# EAGLE library part 610016243021 (library Wuerth_Elektronik_eiCan_Pin_&_Socked_Headers_v1.3)
WR-PHD 2.54mm SMT Dual Socket Header Bottom Entry, 16 Pins
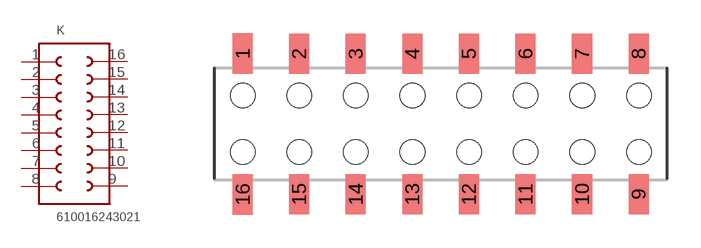
[diagram p222: symbol with the pads of 610016243021; footprint 610016243021]

Designator prefix K

## 610016243021  [610016243021]
1  1  pas
2  2  pas
3  3  pas
4  4  pas
5  5  pas
6  6  pas
7  7  pas
8  8  pas
9  9  pas
10  10  pas
11  11  pas
12  12  pas
13  13  pas
14  14  pas
15  15  pas
16  16  pas

## Footprint 610016243021 (pad centres in mm)
WR-PHD 2.54mm SMT Dual Socket Header Bottom Entry, 16 Pins
smd 0.9 x 1.8: 1 -8.89,3.15; 2 -6.36,3.14; 3 -3.82,3.14; 4 -1.28,3.14; 5 1.26,3.14; 6 3.8,3.14; 7 6.34,3.14; 8 8.88,3.14; 9 8.88,-3.16; 10 6.34,-3.16; 11 3.8,-3.16; 12 1.26,-3.16; 13 -1.28,-3.16; 14 -3.82,-3.16; 15 -6.36,-3.16; 16 -8.89,-3.17
hole 1.1 at -8.89,1.27
hole 1.1 at -6.35,1.27
hole 1.1 at -6.35,-1.27
hole 1.1 at -8.89,-1.27
hole 1.1 at -3.81,1.27
hole 1.1 at -3.81,-1.27
hole 1.1 at -1.27,1.27
hole 1.1 at -1.27,-1.27
hole 1.1 at 1.27,1.27
hole 1.1 at 1.27,-1.27
hole 1.1 at 3.81,1.27
hole 1.1 at 3.81,-1.27
hole 1.1 at 6.35,1.27
hole 1.1 at 6.35,-1.27
hole 1.1 at 8.89,1.27
hole 1.1 at 8.89,-1.27